# EAGLE library part 634008137521 (library Wurth_Connectors_WR-MJ)
WR-MJ Modular Jack Horizontal Shielded SMT w. LED and EMI Panel Finger 8P8C Tab Up KIND PROPERTIES LED yellow-green General Information Operating Temperature -40 up to +85 °C Electrical Properties Working Voltage 120 V (AC) Withstanding Voltage 1000 V (AC) Contact Resistance 20 mΩ RISO 500 MΩ Material Properties Insulator Material PA9T Insulator Flammability Rating UL94 V-0 Insulator Color Black Contact Material Copper Alloy Contact Plating Selective Gold Contact Type Stamped Shielding Material Brass Shielding Plating Nickel (Ni) Packaging Properties Packaging Tape and Reel <https://www.we-online.com/components/media/o60691v209%20Family_WR-MJ_634008137521.jpg> Details see: www.we-online.com/components/products/MJ_SMT_HORIZONTAL_SHIELDED_W_LED_AND_EMI_PANEL_FINGER_8P8C_TAB_UP <www.we-online.com/catalog/MJ_SMT_HORIZONTAL_SHIELDED_W_LED_AND_EMI_PANEL_FINGER_8P8C_TAB_UP/?utm_source=eagle_model&utm_medium=description_link&utm_campaign=eisos_eagle> Updated by Ella Wu 2023-06-27 2023 (C) Würth Elektronik
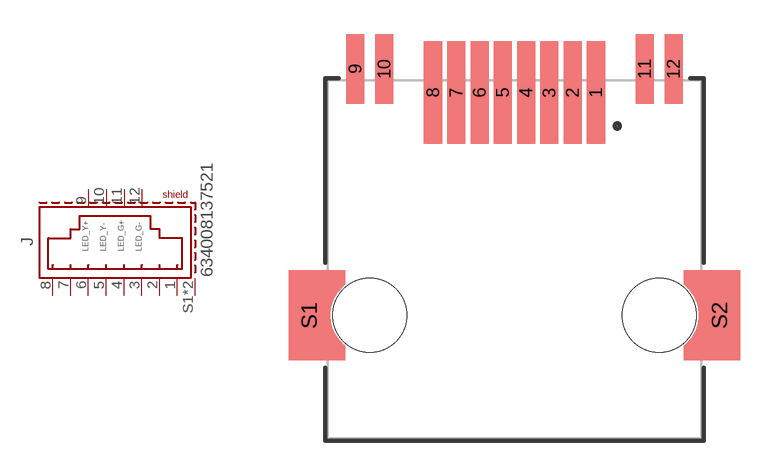
[diagram p56: symbol with the pads of 634008137521; footprint 634008137521]

Designator prefix J

## 634008137521 (DATASHEET-URL: https://www.we-online.com/redexpert/spec/634008137521?ae; LED: yellow-green; MOUNT: SMT; PART-NUMBER: 634008137521; TYPE: Horizontal; VALUE: 634008137521; XPXC: 8P8C)  [634008137521]
1  1  pas
2  2  pas
3  3  pas
4  4  pas
5  5  pas
6  6  pas
7  7  pas
8  8  pas
9  Y+  pas
10  Y-  pas
11  G+  pas
12  G-  pas
S1  SHIELD  pas
S2  SHIELD  pas

## Footprint 634008137521 (pad centres in mm)
WR-MJ Modular Jack Horizontal Shielded SMT w. LED and EMI Panel Finger 8P8C Tab Up
smd 0.8 x 4.5: 1 3.57,7.31; 2 2.55,7.31; 3 1.53,7.31; 4 0.51,7.31; 5 -0.51,7.31; 6 -1.53,7.31; 7 -2.55,7.31; 8 -3.57,7.31
smd 0.8 x 3.05: 9 -6.98,8.35; 10 -5.71,8.35; 11 5.71,8.35; 12 6.98,8.35
smd 1 x 3.89: S1 -9,-2.45; S2 9,-2.45
hole 3.25 at -6.35,-2.45
hole 3.25 at 6.35,-2.45